# EAGLE library part LTC4300-1 (library i2c_epccs)
Hot Swap 2-Wire (I2C) Bus Buffer
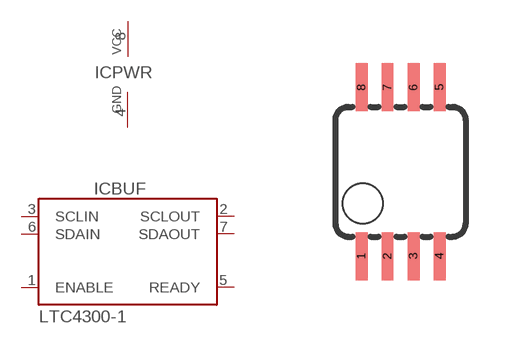
[diagram p18: symbol with the pads of MSOP08; footprint MSOP08]

Designator prefix IC; gates BUF=LTC4300 PWR=PWRN

## LTC4300-1  [MSOP08]
1  BUF:ENABLE  in
2  BUF:SCLOUT  out
3  BUF:SCLIN
4  PWR:GND  pwr
5  BUF:READY  in
6  BUF:SDAIN  out
7  BUF:SDAOUT  in
8  PWR:VCC  pwr

## Footprint MSOP08 (pad centres in mm)
Mini Small Outline Package
smd 0.3 x 1.2: 1 -0.976,-2.113; 2 -0.326,-2.113; 3 0.324,-2.113; 4 0.974,-2.113; 5 0.974,2.112; 6 0.324,2.112; 7 -0.326,2.112; 8 -0.976,2.112